# Altium footprint library mikroBUS_Add-on_standard.PcbLib: 3 footprints
Each footprint in its own frame and in the unit in brackets; x right, y up, seen from the top. Pads: shape width x height; smd on the part's side, far side on the other; paste and mask are expansions set on the pad; w line width, h text height; cw(c..) or ccw(c..) is an arc to the next point about the centre after c.
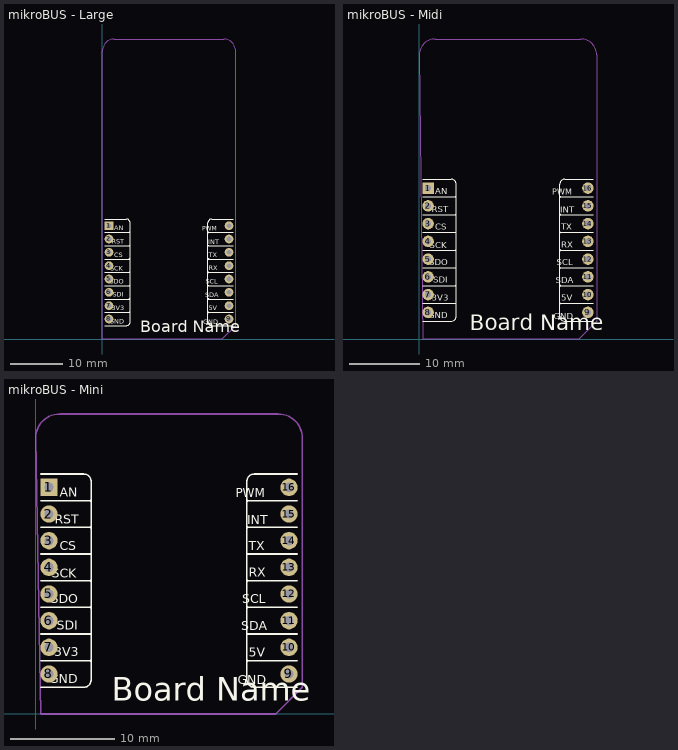
[diagram p0: the footprints below, top view; thin cyan lines are the x and y axes]

## mikroBUS - Large [mil]
height 47.24
pads (16):
  rect 65x65 hole 35: 1(50,850)
  round 65 hole 35: 2(50,750) 3(50,650) 4(50,550) 5(50,450) 6(50,350) 7(50,250) 8(50,150) 9(950,150) 10(950,250) 11(950,350) 12(950,450) 13(950,550) 14(950,650) 15(950,750) 16(950,850)
Top Overlay:
  lines w6: 19.68,100 180.05,100 ; 19.68,900 180,900 cw(c180,872.05) 207.95,872.05 ; 180.05,100.05 ccw(c180.05,128) 208,128 208,872.05 ; 208,805 cw(c203,805) 203,800 ; 792,805 ccw(c797,805) 797,800 ; 792,872.05 792,128 ccw(c819.95,128) 819.95,100.05 ; 792.05,872.05 cw(c820,872.05) 820,900 980.32,900 ; 819.95,100 980.32,100 ; 203,200 cw(c203,195) 208,195 ccw(c203,195) 203,200 ; 203,200 ccw(c203,205) 208,205 208,295 ; 203,200 19.68,200 203,200 ; 203,300 cw(c203,295) 208,295 ; 203,300 ccw(c203,305) 208,305 208,395 ; 203,300 cw(c203,295) 208,295 ; 203,300 19.68,300 203,300 ; 203,400 cw(c203,395) 208,395 ; 203,400 ccw(c203,405) 208,405 208,495 ; 203,400 cw(c203,395) 208,395 ; 203,400 19.68,400 203,400 ; 203,500 cw(c203,495) 208,495 ; 203,500 ccw(c203,505) 208,505 208,595 ; 203,500 cw(c203,495) 208,495 ; 203,500 19.68,500 203,500 ; 203,600 cw(c203,595) 208,595 ; 203,600 ccw(c203,605) 208,605 208,695 ; 203,600 cw(c203,595) 208,595 ; 203,600 19.68,600 203,600 ; 203,700 cw(c203,695) 208,695 ; 203,700 ccw(c203,705) 208,705 208,795 ; 203,700 cw(c203,695) 208,695 ; 203,700 19.68,700 203,700 ; 203,800 cw(c203,795) 208,795 ; 203,800 cw(c203,795) 208,795 ; 203,800 19.68,800 203,800 ; 792,295 cw(c797,295) 797,300 ; 792,295 cw(c797,295) 797,300 ; 792,295 792,205 ccw(c797,205) 797,200 ; 792,395 cw(c797,395) 797,400 ; 792,395 cw(c797,395) 797,400 ; 792,395 792,305 ccw(c797,305) 797,300 ; 792,495 cw(c797,495) 797,500 ; 792,495 cw(c797,495) 797,500 ; 792,495 792,405 ccw(c797,405) 797,400 ; 792,595 cw(c797,595) 797,600 ; 792,595 cw(c797,595) 797,600 ; 792,595 792,505 ccw(c797,505) 797,500 ; 792,695 cw(c797,695) 797,700 ; 792,695 cw(c797,695) 797,700 ; 792,695 792,605 ccw(c797,605) 797,600 ; 792,795 cw(c797,795) 797,800 ; 792,795 cw(c797,795) 797,800 ; 792,795 792,705 ccw(c797,705) 797,700 ; 797,200 ccw(c797,195) 792,195 cw(c797,195) 797,200 ; 797,200 980.32,200 797,200 ; 797,300 980.32,300 797,300 ; 797,400 980.32,400 797,400 ; 797,500 980.32,500 797,500 ; 797,600 980.32,600 797,600 ; 797,700 980.32,700 797,700 ; 797,800 980.32,800 797,800
  text "RST" at 71.17,703 h59.06
  text "CS" at 90,603 h59.06
  text "SCK" at 60,500 h59.06
  text "SDO" at 56.93,403.75 h59.06
  text "SDI" at 79.43,304.22 h59.06
  text "3V3" at 69.35,205.21 h59.06
  text "GND" at 50.67,104.45 h59.06
  text "AN" at 90,803 h59.06
  text "GND" at 757.09,100.5 h59.06
  text "5V" at 799.79,203 h59.06
  text "SDA" at 770.01,303.49 h59.06
  text "SCL" at 774.58,404.6 h59.06
  text "RX" at 799.79,503 h59.06
  text "TX" at 799.79,603 h59.06
  text "INT" at 793.66,700.82 h59.06
  text "PWM" at 750.23,802.15 h55.12
  text "Board Name" at 285,19 h150
Bottom Overlay:
  lines w6: 19.68,100 221.05,100 ; 19.68,900 221,900 cw(c221,872.05) 248.95,872.05 248.95,128.05 ; 221.05,100.05 ccw(c221.05,128) 249,128 ; 249,128.05 249,195 ccw(c244,195) 244,200 ; 249,805 cw(c244,805) 244,800 ; 751,128 ccw(c778.95,128) 778.95,100.05 ; 751,128.05 751,195 cw(c756,195) 756,200 ; 751,805 ccw(c756,805) 756,800 ; 751.05,128.05 751.05,872.05 cw(c779,872.05) 779,900 980.32,900 ; 778.95,100 980.32,100 ; 244,200 ccw(c244,205) 249,205 249,295 ccw(c244,295) 244,300 ; 244,200 19.68,200 244,200 ; 244,300 ccw(c244,305) 249,305 249,395 ccw(c244,395) 244,400 ; 244,300 19.68,300 244,300 ; 244,400 ccw(c244,405) 249,405 249,495 ccw(c244,495) 244,500 ; 244,400 19.68,400 244,400 ; 244,500 ccw(c244,505) 249,505 249,595 ccw(c244,595) 244,600 ; 244,500 19.68,500 244,500 ; 244,600 ccw(c244,605) 249,605 249,695 ccw(c244,695) 244,700 ; 244,600 19.68,600 244,600 ; 244,700 ccw(c244,705) 249,705 249,795 ccw(c244,795) 244,800 ; 244,700 19.68,700 244,700 ; 244,800 19.68,800 244,800 ; 756,200 cw(c756,205) 751,205 751,295 cw(c756,295) 756,300 ; 756,200 980.32,200 756,200 ; 756,300 cw(c756,305) 751,305 751,395 cw(c756,395) 756,400 ; 756,300 980.32,300 756,300 ; 756,400 cw(c756,405) 751,405 751,495 cw(c756,495) 756,500 ; 756,400 980.32,400 756,400 ; 756,500 cw(c756,505) 751,505 751,595 cw(c756,595) 756,600 ; 756,500 980.32,500 756,500 ; 756,600 cw(c756,605) 751,605 751,695 cw(c756,695) 756,700 ; 756,600 980.32,600 756,600 ; 756,700 cw(c756,705) 751,705 751,795 cw(c756,795) 756,800 ; 756,700 980.32,700 756,700 ; 756,800 980.32,800 756,800
  text "AN" at 230,800 h59.06
  text "GND" at 264,104 h59.06
  text "3V3" at 237.57,203 h59.06
  text "SDI" at 230,303 h59.06
  text "SDO" at 248.95,404.32 h59.06
  text "SCK" at 248.95,504.32 h59.06
  text "CS" at 230,603 h59.06
  text "RST" at 244,705 h59.06
  text "GND" at 948,100 h59.06
  text "5V" at 898.5,200 h59.06
  text "SDA" at 936,305 h59.06
  text "SCL" at 936,400 h59.06
  text "RX" at 918,503 h59.06
  text "TX" at 918,600 h59.06
  text "INT" at 918,700 h59.06
  text "PWM" at 948,797 h59.06
Mechanical 6:
  lines w6: 0,0 0,2160 cw(c90,2160) 90,2250 910,2250 cw(c910,2160) 1000,2160 1000,100 900,0 0,0
3D body "Header 1x8.stp": height 81.88, standoff -398.04, extent 895,100 1009.96,900
3D body "Header 1x8.stp": height 81.88, standoff -398.04, extent -5,100 109.96,900

## mikroBUS - Midi [mil]
height 47.24
pads (16):
  rect 65x65 hole 35: 1(50,850)
  round 65 hole 35: 2(50,750) 3(50,650) 4(50,550) 5(50,450) 6(50,350) 7(50,250) 8(50,150) 9(950,150) 10(950,250) 11(950,350) 12(950,450) 13(950,550) 14(950,650) 15(950,750) 16(950,850)
Top Overlay:
  lines w6: 19.68,100 180.05,100 ; 19.68,900 180,900 cw(c180,872.05) 207.95,872.05 ; 180.05,100.05 ccw(c180.05,128) 208,128 208,872.05 ; 208,805 cw(c203,805) 203,800 ; 792,805 ccw(c797,805) 797,800 ; 792,872.05 792,128 ccw(c819.95,128) 819.95,100.05 ; 792.05,872.05 cw(c820,872.05) 820,900 980.32,900 ; 819.95,100 980.32,100 ; 203,200 cw(c203,195) 208,195 ccw(c203,195) 203,200 ; 203,200 ccw(c203,205) 208,205 208,295 ; 203,200 19.68,200 203,200 ; 203,300 cw(c203,295) 208,295 ; 203,300 ccw(c203,305) 208,305 208,395 ; 203,300 cw(c203,295) 208,295 ; 203,300 19.68,300 203,300 ; 203,400 cw(c203,395) 208,395 ; 203,400 ccw(c203,405) 208,405 208,495 ; 203,400 cw(c203,395) 208,395 ; 203,400 19.68,400 203,400 ; 203,500 cw(c203,495) 208,495 ; 203,500 ccw(c203,505) 208,505 208,595 ; 203,500 cw(c203,495) 208,495 ; 203,500 19.68,500 203,500 ; 203,600 cw(c203,595) 208,595 ; 203,600 ccw(c203,605) 208,605 208,695 ; 203,600 cw(c203,595) 208,595 ; 203,600 19.68,600 203,600 ; 203,700 cw(c203,695) 208,695 ; 203,700 ccw(c203,705) 208,705 208,795 ; 203,700 cw(c203,695) 208,695 ; 203,700 19.68,700 203,700 ; 203,800 cw(c203,795) 208,795 ; 203,800 cw(c203,795) 208,795 ; 203,800 19.68,800 203,800 ; 792,295 cw(c797,295) 797,300 ; 792,295 cw(c797,295) 797,300 ; 792,295 792,205 ccw(c797,205) 797,200 ; 792,395 cw(c797,395) 797,400 ; 792,395 cw(c797,395) 797,400 ; 792,395 792,305 ccw(c797,305) 797,300 ; 792,495 cw(c797,495) 797,500 ; 792,495 cw(c797,495) 797,500 ; 792,495 792,405 ccw(c797,405) 797,400 ; 792,595 cw(c797,595) 797,600 ; 792,595 cw(c797,595) 797,600 ; 792,595 792,505 ccw(c797,505) 797,500 ; 792,695 cw(c797,695) 797,700 ; 792,695 cw(c797,695) 797,700 ; 792,695 792,605 ccw(c797,605) 797,600 ; 792,795 cw(c797,795) 797,800 ; 792,795 cw(c797,795) 797,800 ; 792,795 792,705 ccw(c797,705) 797,700 ; 797,200 ccw(c797,195) 792,195 cw(c797,195) 797,200 ; 797,200 980.32,200 797,200 ; 797,300 980.32,300 797,300 ; 797,400 980.32,400 797,400 ; 797,500 980.32,500 797,500 ; 797,600 980.32,600 797,600 ; 797,700 980.32,700 797,700 ; 797,800 980.32,800 797,800
  text "RST" at 71.17,703 h59.06
  text "CS" at 90,603 h59.06
  text "SCK" at 60,500 h59.06
  text "SDO" at 56.92,403.75 h59.06
  text "SDI" at 79.43,304.22 h59.06
  text "3V3" at 69.35,205.21 h59.06
  text "GND" at 50.67,104.45 h59.06
  text "AN" at 90,803 h59.06
  text "GND" at 757.09,100.5 h59.06
  text "5V" at 799.79,203 h59.06
  text "SDA" at 770.01,303.49 h59.06
  text "SCL" at 774.58,404.6 h59.06
  text "RX" at 799.79,503 h59.06
  text "TX" at 799.79,603 h59.06
  text "INT" at 793.66,700.82 h59.06
  text "PWM" at 750.23,802.15 h55.12
  text "Board Name" at 285,19 h150
Bottom Overlay:
  lines w6: 19.68,100 221.05,100 ; 19.68,900 221,900 cw(c221,872.05) 248.95,872.05 248.95,128.05 ; 221.05,100.05 ccw(c221.05,128) 249,128 ; 249,128.05 249,195 ccw(c244,195) 244,200 ; 249,805 cw(c244,805) 244,800 ; 751,128 ccw(c778.95,128) 778.95,100.05 ; 751,128.05 751,195 cw(c756,195) 756,200 ; 751,805 ccw(c756,805) 756,800 ; 751.05,128.05 751.05,872.05 cw(c779,872.05) 779,900 980.32,900 ; 778.95,100 980.32,100 ; 244,200 ccw(c244,205) 249,205 249,295 ccw(c244,295) 244,300 ; 244,200 19.68,200 244,200 ; 244,300 ccw(c244,305) 249,305 249,395 ccw(c244,395) 244,400 ; 244,300 19.68,300 244,300 ; 244,400 ccw(c244,405) 249,405 249,495 ccw(c244,495) 244,500 ; 244,400 19.68,400 244,400 ; 244,500 ccw(c244,505) 249,505 249,595 ccw(c244,595) 244,600 ; 244,500 19.68,500 244,500 ; 244,600 ccw(c244,605) 249,605 249,695 ccw(c244,695) 244,700 ; 244,600 19.68,600 244,600 ; 244,700 ccw(c244,705) 249,705 249,795 ccw(c244,795) 244,800 ; 244,700 19.68,700 244,700 ; 244,800 19.68,800 244,800 ; 756,200 cw(c756,205) 751,205 751,295 cw(c756,295) 756,300 ; 756,200 980.32,200 756,200 ; 756,300 cw(c756,305) 751,305 751,395 cw(c756,395) 756,400 ; 756,300 980.32,300 756,300 ; 756,400 cw(c756,405) 751,405 751,495 cw(c756,495) 756,500 ; 756,400 980.32,400 756,400 ; 756,500 cw(c756,505) 751,505 751,595 cw(c756,595) 756,600 ; 756,500 980.32,500 756,500 ; 756,600 cw(c756,605) 751,605 751,695 cw(c756,695) 756,700 ; 756,600 980.32,600 756,600 ; 756,700 cw(c756,705) 751,705 751,795 cw(c756,795) 756,800 ; 756,700 980.32,700 756,700 ; 756,800 980.32,800 756,800
  text "AN" at 230,800 h59.06
  text "GND" at 264,104 h59.06
  text "3V3" at 237.57,203 h59.06
  text "SDI" at 230,303 h59.06
  text "SDO" at 248.95,404.32 h59.06
  text "SCK" at 248.95,504.32 h59.06
  text "CS" at 230,603 h59.06
  text "RST" at 244,705 h59.06
  text "GND" at 948,100 h59.06
  text "5V" at 898.5,200 h59.06
  text "SDA" at 936,305 h59.06
  text "SCL" at 936,400 h59.06
  text "RX" at 918,503 h59.06
  text "TX" at 918,600 h59.06
  text "INT" at 918,700 h59.06
  text "PWM" at 948,797 h59.06
Mechanical 6:
  lines w6: 0,1600 cw(c90,1600) 90,1690 910,1690 cw(c910,1600) 1000,1600 1000,100 900,0 19.68,0 0,1600
3D body "Header 1x8.stp": height 81.88, standoff -398.04, extent -5,100 109.96,900
3D body "Header 1x8.stp": height 81.88, standoff -398.04, extent 895,100 1009.96,900

## mikroBUS - Mini [mil]
height 47.24
pads (16):
  rect 65x65 hole 35: 1(50,850)
  round 65 hole 35: 2(50,750) 3(50,650) 4(50,550) 5(50,450) 6(50,350) 7(50,250) 8(50,150) 9(950,150) 10(950,250) 11(950,350) 12(950,450) 13(950,550) 14(950,650) 15(950,750) 16(950,850)
Top Overlay:
  lines w6: 19.68,100 180.05,100 ; 19.68,900 180,900 cw(c180,872.05) 207.95,872.05 ; 180.05,100.05 ccw(c180.05,128) 208,128 208,872.05 ; 208,805 cw(c203,805) 203,800 ; 792,805 ccw(c797,805) 797,800 ; 792,872.05 792,128 ccw(c819.95,128) 819.95,100.05 ; 792.05,872.05 cw(c820,872.05) 820,900 980.32,900 ; 819.95,100 980.32,100 ; 203,200 cw(c203,195) 208,195 ccw(c203,195) 203,200 ; 203,200 ccw(c203,205) 208,205 208,295 ; 203,200 19.68,200 203,200 ; 203,300 cw(c203,295) 208,295 ; 203,300 ccw(c203,305) 208,305 208,395 ; 203,300 cw(c203,295) 208,295 ; 203,300 19.68,300 203,300 ; 203,400 cw(c203,395) 208,395 ; 203,400 ccw(c203,405) 208,405 208,495 ; 203,400 cw(c203,395) 208,395 ; 203,400 19.68,400 203,400 ; 203,500 cw(c203,495) 208,495 ; 203,500 ccw(c203,505) 208,505 208,595 ; 203,500 cw(c203,495) 208,495 ; 203,500 19.68,500 203,500 ; 203,600 cw(c203,595) 208,595 ; 203,600 ccw(c203,605) 208,605 208,695 ; 203,600 cw(c203,595) 208,595 ; 203,600 19.68,600 203,600 ; 203,700 cw(c203,695) 208,695 ; 203,700 ccw(c203,705) 208,705 208,795 ; 203,700 cw(c203,695) 208,695 ; 203,700 19.68,700 203,700 ; 203,800 cw(c203,795) 208,795 ; 203,800 cw(c203,795) 208,795 ; 203,800 19.68,800 203,800 ; 792,295 cw(c797,295) 797,300 ; 792,295 cw(c797,295) 797,300 ; 792,295 792,205 ccw(c797,205) 797,200 ; 792,395 cw(c797,395) 797,400 ; 792,395 cw(c797,395) 797,400 ; 792,395 792,305 ccw(c797,305) 797,300 ; 792,495 cw(c797,495) 797,500 ; 792,495 cw(c797,495) 797,500 ; 792,495 792,405 ccw(c797,405) 797,400 ; 792,595 cw(c797,595) 797,600 ; 792,595 cw(c797,595) 797,600 ; 792,595 792,505 ccw(c797,505) 797,500 ; 792,695 cw(c797,695) 797,700 ; 792,695 cw(c797,695) 797,700 ; 792,695 792,605 ccw(c797,605) 797,600 ; 792,795 cw(c797,795) 797,800 ; 792,795 cw(c797,795) 797,800 ; 792,795 792,705 ccw(c797,705) 797,700 ; 797,200 ccw(c797,195) 792,195 cw(c797,195) 797,200 ; 797,200 980.32,200 797,200 ; 797,300 980.32,300 797,300 ; 797,400 980.32,400 797,400 ; 797,500 980.32,500 797,500 ; 797,600 980.32,600 797,600 ; 797,700 980.32,700 797,700 ; 797,800 980.32,800 797,800
  text "RST" at 71.17,703 h59.06
  text "CS" at 90,603 h59.06
  text "SCK" at 60,500 h59.06
  text "SDO" at 56.93,403.75 h59.06
  text "SDI" at 79.43,304.22 h59.06
  text "3V3" at 69.35,205.21 h59.06
  text "GND" at 50.67,104.45 h59.06
  text "AN" at 90,803 h59.06
  text "GND" at 757.09,100.5 h59.06
  text "5V" at 799.79,203 h59.06
  text "SDA" at 770.01,303.49 h59.06
  text "SCL" at 774.58,404.6 h59.06
  text "RX" at 799.79,503 h59.06
  text "TX" at 799.79,603 h59.06
  text "INT" at 793.66,700.82 h59.06
  text "PWM" at 750.23,802.15 h55.12
  text "Board Name" at 285,19 h150
Bottom Overlay:
  lines w6: 19.68,100 221.05,100 ; 19.68,900 221,900 cw(c221,872.05) 248.95,872.05 248.95,128.05 ; 221.05,100.05 ccw(c221.05,128) 249,128 ; 249,128.05 249,195 ccw(c244,195) 244,200 ; 249,805 cw(c244,805) 244,800 ; 751,128 ccw(c778.95,128) 778.95,100.05 ; 751,128.05 751,195 cw(c756,195) 756,200 ; 751,805 ccw(c756,805) 756,800 ; 751.05,128.05 751.05,872.05 cw(c779,872.05) 779,900 980.32,900 ; 778.95,100 980.32,100 ; 244,200 ccw(c244,205) 249,205 249,295 ccw(c244,295) 244,300 ; 244,200 19.68,200 244,200 ; 244,300 ccw(c244,305) 249,305 249,395 ccw(c244,395) 244,400 ; 244,300 19.68,300 244,300 ; 244,400 ccw(c244,405) 249,405 249,495 ccw(c244,495) 244,500 ; 244,400 19.68,400 244,400 ; 244,500 ccw(c244,505) 249,505 249,595 ccw(c244,595) 244,600 ; 244,500 19.68,500 244,500 ; 244,600 ccw(c244,605) 249,605 249,695 ccw(c244,695) 244,700 ; 244,600 19.68,600 244,600 ; 244,700 ccw(c244,705) 249,705 249,795 ccw(c244,795) 244,800 ; 244,700 19.68,700 244,700 ; 244,800 19.68,800 244,800 ; 756,200 cw(c756,205) 751,205 751,295 cw(c756,295) 756,300 ; 756,200 980.32,200 756,200 ; 756,300 cw(c756,305) 751,305 751,395 cw(c756,395) 756,400 ; 756,300 980.32,300 756,300 ; 756,400 cw(c756,405) 751,405 751,495 cw(c756,495) 756,500 ; 756,400 980.32,400 756,400 ; 756,500 cw(c756,505) 751,505 751,595 cw(c756,595) 756,600 ; 756,500 980.32,500 756,500 ; 756,600 cw(c756,605) 751,605 751,695 cw(c756,695) 756,700 ; 756,600 980.32,600 756,600 ; 756,700 cw(c756,705) 751,705 751,795 cw(c756,795) 756,800 ; 756,700 980.32,700 756,700 ; 756,800 980.32,800 756,800
  text "AN" at 230,800 h59.06
  text "GND" at 264,104 h59.06
  text "3V3" at 237.57,203 h59.06
  text "SDI" at 230,303 h59.06
  text "SDO" at 248.95,404.32 h59.06
  text "SCK" at 248.95,504.32 h59.06
  text "CS" at 230,603 h59.06
  text "RST" at 244,705 h59.06
  text "GND" at 948,100 h59.06
  text "5V" at 898.5,200 h59.06
  text "SDA" at 936,305 h59.06
  text "SCL" at 936,400 h59.06
  text "RX" at 918,503 h59.06
  text "TX" at 918,600 h59.06
  text "INT" at 918,700 h59.06
  text "PWM" at 948,797 h59.06
Mechanical 6:
  lines w6: 0,1035 cw(c90,1035) 90,1125 910,1125 cw(c910,1035) 1000,1035 1000,100 900,0 19.68,0 0,1035
3D body "Header 1x8.stp": height 81.88, standoff -398.04, extent -5,100 109.96,900
3D body "Header 1x8.stp": height 81.88, standoff -398.04, extent 895,100 1009.96,900